# EAGLE library part PIC18F2*J50/ML (library mchp-pic18)
28 pins QFN USB microcontroller from 16k to 64k Flash and 4k Ram Description PIC18F24J50 (16K Flash, 3776 bytes RAM) PIC18F25J50 (32K Flash, 3776 bytes RAM) PIC18F26J50 (64K Flash, 3776 bytes RAM) Power Management Features with nanoWatt XLP™ for Extreme Low-Power: • Deep Sleep mode: CPU off, Peripherals off, Currents Down to 13 nA and 850 nA with RTCC: - Able to wake-up on external triggers, programmable WDT or RTCC alarm - Ultra Low-Power Wake-up (ULPWU) • Sleep mode: CPU off, Peripherals off, SRAM on, Fast Wake-up, Currents Down to 105 nA, Typical • Idle: CPU off, Peripherals on, Currents Down to 2.3 A, Typical • Run: CPU on, Peripherals on, Currents Down to 6.2 A, Typical • Timer1 Oscillator w/RTCC: 1 A, 32 kHz, Typical • Watchdog Timer: 0.8 µA, 2V, Typical Special Microcontroller Features: • Low-Power, High-Speed CMOS Flash Technology • C Compiler Optimized Architecture for Re-Entrant Code • Priority Levels for Interrupts • Self-Programmable under Software Control • 8 x 8 Single-Cycle Hardware Multiplier • Extended Watchdog Timer (WDT): - Programmable period from 4 ms to 131s • Single-Supply In-Circuit Serial Programming™ (ICSP™) via two pins • In-Circuit Debug (ICD) w/Three Breakpoints via 2 Pins • Operating Voltage Range of 2.0V to 3.6V • On-Chip 2.5V Regulator • Flash Program Memory of 10,000 Erase/Write Cycles Minimum and 20-Year Data Retention Universal Serial Bus (USB) Features • USB V2.0 Compliant • Full Speed (12 Mbps) and Low Speed (1.5 Mbps) • Supports Control, Interrupt, Isochronous and B ulk Transfers • Supports up to 32 Endpoints (16 bidirectional) • USB module can use any RAM Location on the Device as USB Endpoint Buffers • On-Chip USB Transceiver with Crystal-less operation Flexible Oscillator Structure: • High-Precision Internal Oscillator (±0.15% typ.) for USB • Two External Clock modes, up to 48 MHz (12 MIPS) • Low-Power, 31 kHz Internal RC Oscillator • Tunable Internal Oscillator (31 kHz to 8 MHz, or up to 48 MHz with PLL) • Secondary Oscillator using Timer1 @ 32 kHz • Fail-Safe Clock Monitor: - Allows for safe shutdown if any clock stops • Two-Speed Oscillator Start-up • Programmable Reference Clock Output Generator Ref: Datasheets <http://ww1.microchip.com/downloads/en/DeviceDoc/39931d.pdf>
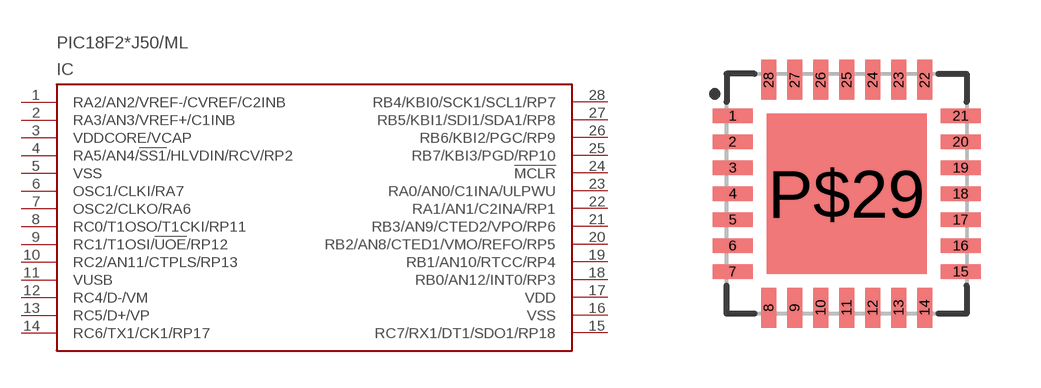
[diagram p3: symbol with the pads of QFN65P600X600X100-28N; footprint QFN65P600X600X100-28N]

Designator prefix IC

## PIC18F24J50/ML', PIC18F25J50/ML', PIC18F26J50/ML'  [QFN65P600X600X100-28N]
1  RA2/AN2/VREF-/CVREF/C2INB
2  RA3/AN3/VREF+/C1INB
3  VDDCORE/VCAP  pwr
4  RA5/AN4/!SS1!/HLVDIN/RCV/RP2
5  VSS  pwr
6  OSC1/CLKI/RA7
7  OSC2/CLKO/RA6
8  RC0/T1OSO/T1CKI/RP11
9  RC1/T1OSI/!UOE!/RP12
10  RC2/AN11/CTPLS/RP13
11  VUSB  pwr
12  RC4/D-/VM
13  RC5/D+/VP
14  RC6/TX1/CK1/RP17
15  RC7/RX1/DT1/SDO1/RP18
16  VSS  pwr
17  VDD  pwr
18  RB0/AN12/INT0/RP3
19  RB1/AN10/RTCC/RP4
20  RB2/AN8/CTED1/VMO/REFO/RP5
21  RB3/AN9/CTED2/VPO/RP6
22  RA1/AN1/C2INA/RP1
23  RA0/AN0/C1INA/ULPWU
24  !MCLR
25  RB7/KBI3/PGD/RP10
26  RB6/KBI2/PGC/RP9
27  RB5/KBI1/SDI1/SDA1/RP8
28  RB4/KBI0/SCK1/SCL1/RP7

## Footprint QFN65P600X600X100-28N (pad centres in mm)
0.65Pitch, Quad Flat No lead package (QFN28) 0.65mm Pitch 7 x7, 28 Pin count 6.0mm L x 6.0mm W x 1.0mm H -----------------------------------------
smd 1 x 0.37: 1 -2.85,1.95; 2 -2.85,1.3; 3 -2.85,0.65; 4 -2.85,0; 5 -2.85,-0.65; 6 -2.85,-1.3; 7 -2.85,-1.95; 15 2.85,-1.95; 16 2.85,-1.3; 17 2.85,-0.65; 18 2.85,0; 19 2.85,0.65; 20 2.85,1.3; 21 2.85,1.95
smd 0.37 x 1: 8 -1.95,-2.85; 9 -1.3,-2.85; 10 -0.65,-2.85; 11 0,-2.85; 12 0.65,-2.85; 13 1.3,-2.85; 14 1.95,-2.85; 22 1.95,2.85; 23 1.3,2.85; 24 0.65,2.85; 25 0,2.85; 26 -0.65,2.85; 27 -1.3,2.85; 28 -1.95,2.85
smd 4 x 4: P$29 0,0